# Altium integrated library NVR1P02T1G.IntLib: 1 symbol
Pins are listed as number, name and electrical type; pins without a type are passive.

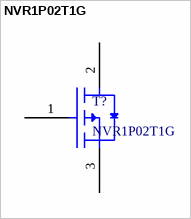
[diagram p0: symbol NVR1P02T1G]

## NVR1P02T1G
designator T?
P-Channel MOSFET
footprint SOT95P237X111-3N (SOT23, 3-Leads, Body 2.92x2.37mm, Pitch 0.95mm, IPC Medium Density)
pins: 1 G, 2 S, 3 D